# EAGLE library part HEADER-2X4 (library old-4ms-main-parts)
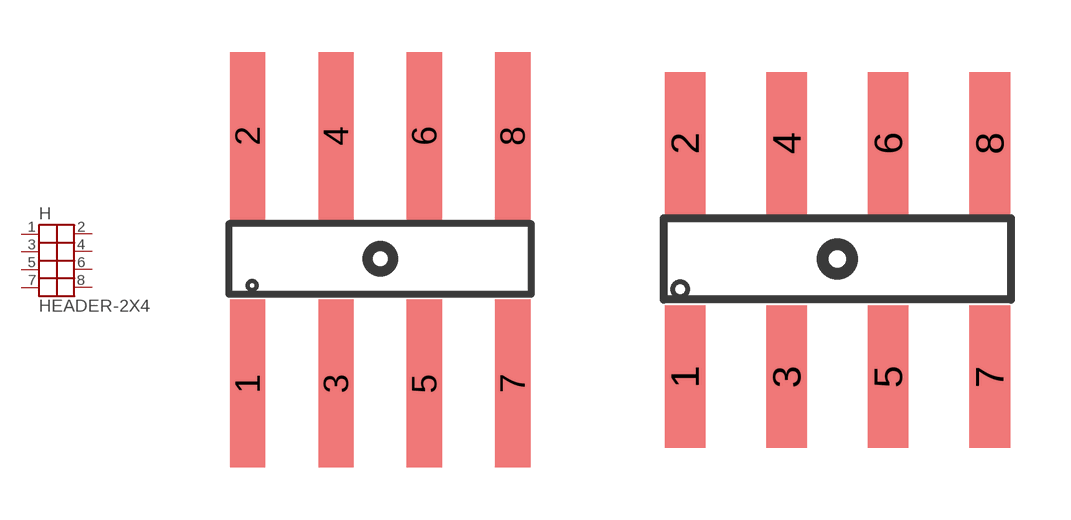
[diagram p9: symbol with the pads of HEADER-2X4-SMT-SHROUDED; footprints HEADER-2X4-SMT-SHROUDED, HEADER-2X4-SMT]

Designator prefix H

## HEADER-2X4SMT-SH  [HEADER-2X4-SMT-SHROUDED]
1  P$1
2  P$2
3  P$3
4  P$4
5  P$5
6  P$6
7  P$7
8  P$8

## HEADER-2X4SMT  [HEADER-2X4-SMT]
Pads as for HEADER-2X4-SMT-SHROUDED

## Footprint HEADER-2X4-SMT-SHROUDED (pad centres in mm)
smd 1.016 x 4.826: 1 -3.81,-3.585; 2 -3.81,3.534; 3 -1.27,-3.585; 4 -1.27,3.534; 5 1.27,-3.585; 6 1.27,3.534; 7 3.81,-3.585; 8 3.81,3.534

## Footprint HEADER-2X4-SMT (pad centres in mm)
smd 1.016 x 3.556: 1 -3.81,-2.95; 2 -3.81,2.899; 3 -1.27,-2.95; 4 -1.27,2.899; 5 1.27,-2.95; 6 1.27,2.899; 7 3.81,-2.95; 8 3.81,2.899